# EAGLE library part LIB_EIS_HSW_MOLEX_CON2_6P (library icboard)
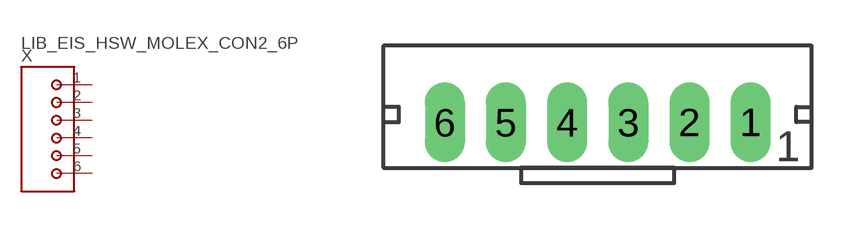
[diagram p2: symbol with the pads of LIB_EIS_HSW_CON2_6P; footprint LIB_EIS_HSW_CON2_6P]

Designator prefix X

## LIB_EIS_HSW_MOLEX_CON2_6P  [LIB_EIS_HSW_CON2_6P]
1  1
2  2
3  3
4  4
5  5
6  6

## Footprint LIB_EIS_HSW_CON2_6P (pad centres in mm)
drill 0.8 pad 1.27 long: 1 5,0.01; 2 3,0.01; 3 1,0; 4 -1,0; 5 -3,0; 6 -5,0